# Altium schematic symbol library CAP0805.SchLib: 1 symbol
Pins are listed as number, name and electrical type; pins without a type are passive.

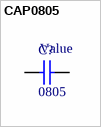
[diagram p0: symbol CAP0805]

## CAP0805
designator C?, comment 0805
0805 capacitor; Value: Value
footprint CAP0805R (capacitor 0805 reflow soldering)
simulation model CAP (Capacitor)
signal-integrity model Cap
pins: 1, 2